# EAGLE library part NRF52832-QFAA-R (library NRF52832_QFAA)
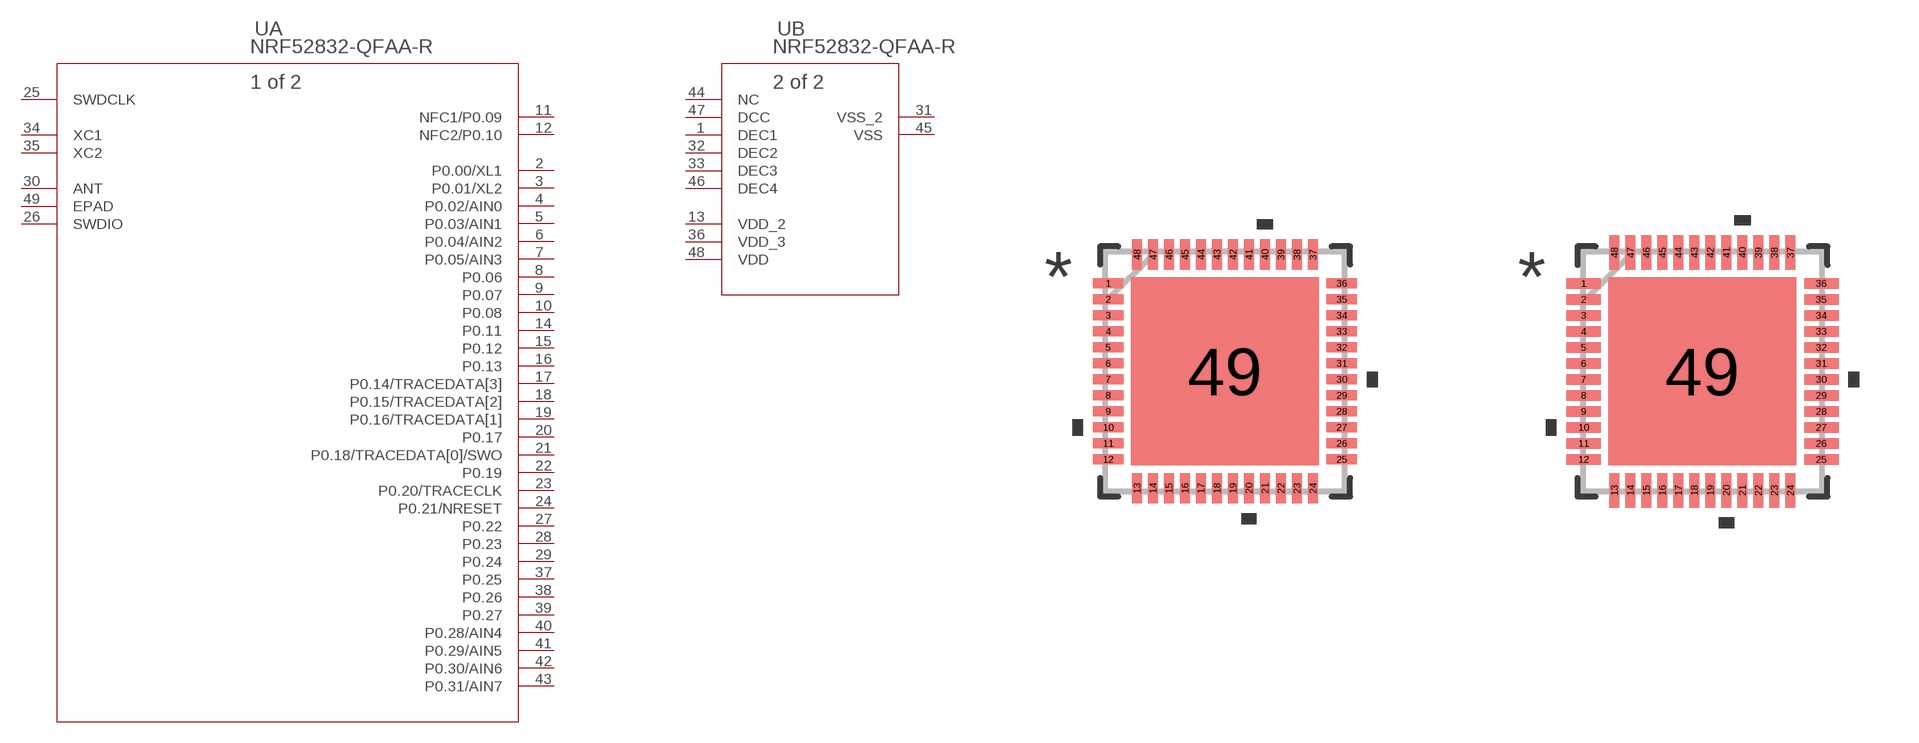
[diagram p0: symbol with the pads of QFN-48; footprints QFN-48, QFN-48-M]

Designator prefix U; gates A=NRF52832-QFAA-R B=NRF52832-QFAA-R_A

## NRF52832-QFAA-R (MANUFACTURER_PART_NUMBER: NRF52832QFAAR; VENDOR: Nordic Semiconductor)  [QFN-48]
1  B:DEC1  pwr
2  A:P0.00/XL1
3  A:P0.01/XL2
4  A:P0.02/AIN0
5  A:P0.03/AIN1
6  A:P0.04/AIN2
7  A:P0.05/AIN3
8  A:P0.06
9  A:P0.07
10  A:P0.08
11  A:NFC1/P0.09
12  A:NFC2/P0.10
13  B:VDD_2  pwr
14  A:P0.11
15  A:P0.12
16  A:P0.13
17  A:P0.14/TRACEDATA[3]
18  A:P0.15/TRACEDATA[2]
19  A:P0.16/TRACEDATA[1]
20  A:P0.17
21  A:P0.18/TRACEDATA[0]/SWO
22  A:P0.19
23  A:P0.20/TRACECLK
24  A:P0.21/NRESET
25  A:SWDCLK  in
26  A:SWDIO
27  A:P0.22
28  A:P0.23
29  A:P0.24
30  A:ANT  pas
31  B:VSS_2  pwr
32  B:DEC2  pwr
33  B:DEC3  pwr
34  A:XC1  in
35  A:XC2  in
36  B:VDD_3  pwr
37  A:P0.25
38  A:P0.26
39  A:P0.27
40  A:P0.28/AIN4
41  A:P0.29/AIN5
42  A:P0.30/AIN6
43  A:P0.31/AIN7
44  B:NC  nc
45  B:VSS  pwr
46  B:DEC4  pwr
47  B:DCC  pwr
48  B:VDD  pwr
49  A:EPAD  pas

## NRF52832-QFAA-RQFN-48-M (MANUFACTURER_PART_NUMBER: NRF52832QFAAR; VENDOR: Nordic Semiconductor)  [QFN-48-M]
Pads as for QFN-48

## NRF52832-QFAA-RQFN-48-L (MANUFACTURER_PART_NUMBER: NRF52832QFAAR; VENDOR: Nordic Semiconductor)  [QFN-48-L]
Pads as for QFN-48

## Footprint QFN-48 (pad centres in mm)
smd 0.762 x 0.254: 1 -2.921,2.2; 2 -2.921,1.8; 3 -2.921,1.4; 4 -2.921,1; 5 -2.921,0.6; 6 -2.921,0.2; 7 -2.921,-0.2; 8 -2.921,-0.6; 9 -2.921,-1; 10 -2.921,-1.4; 11 -2.921,-1.8; 12 -2.921,-2.2; 25 2.921,-2.2; 26 2.921,-1.8; 27 2.921,-1.4; 28 2.921,-1; 29 2.921,-0.6; 30 2.921,-0.2; 31 2.921,0.2; 32 2.921,0.6; 33 2.921,1; 34 2.921,1.4; 35 2.921,1.8; 36 2.921,2.2
smd 0.254 x 0.762: 13 -2.2,-2.921; 14 -1.8,-2.921; 15 -1.4,-2.921; 16 -1,-2.921; 17 -0.6,-2.921; 18 -0.2,-2.921; 19 0.2,-2.921; 20 0.6,-2.921; 21 1,-2.921; 22 1.4,-2.921; 23 1.8,-2.921; 24 2.2,-2.921; 37 2.2,2.921; 38 1.8,2.921; 39 1.4,2.921; 40 1,2.921; 41 0.6,2.921; 42 0.2,2.921; 43 -0.2,2.921; 44 -0.6,2.921; 45 -1,2.921; 46 -1.4,2.921; 47 -1.8,2.921; 48 -2.2,2.921
smd 4.699 x 4.699: 49 0,0

## Footprint QFN-48-M (pad centres in mm)
smd 0.864 x 0.254: 1 -2.972,2.2; 2 -2.972,1.8; 3 -2.972,1.4; 4 -2.972,1; 5 -2.972,0.6; 6 -2.972,0.2; 7 -2.972,-0.2; 8 -2.972,-0.6; 9 -2.972,-1; 10 -2.972,-1.4; 11 -2.972,-1.8; 12 -2.972,-2.2; 25 2.972,-2.2; 26 2.972,-1.8; 27 2.972,-1.4; 28 2.972,-1; 29 2.972,-0.6; 30 2.972,-0.2; 31 2.972,0.2; 32 2.972,0.6; 33 2.972,1; 34 2.972,1.4; 35 2.972,1.8; 36 2.972,2.2
smd 0.254 x 0.864: 13 -2.2,-2.972; 14 -1.8,-2.972; 15 -1.4,-2.972; 16 -1,-2.972; 17 -0.6,-2.972; 18 -0.2,-2.972; 19 0.2,-2.972; 20 0.6,-2.972; 21 1,-2.972; 22 1.4,-2.972; 23 1.8,-2.972; 24 2.2,-2.972; 37 2.2,2.972; 38 1.8,2.972; 39 1.4,2.972; 40 1,2.972; 41 0.6,2.972; 42 0.2,2.972; 43 -0.2,2.972; 44 -0.6,2.972; 45 -1,2.972; 46 -1.4,2.972; 47 -1.8,2.972; 48 -2.2,2.972
smd 4.699 x 4.699: 49 0,0

## Footprint QFN-48-L (pad centres in mm)
smd 0.66 x 0.254: 1 -2.87,2.2; 2 -2.87,1.8; 3 -2.87,1.4; 4 -2.87,1; 5 -2.87,0.6; 6 -2.87,0.2; 7 -2.87,-0.2; 8 -2.87,-0.6; 9 -2.87,-1; 10 -2.87,-1.4; 11 -2.87,-1.8; 12 -2.87,-2.2; 25 2.87,-2.2; 26 2.87,-1.8; 27 2.87,-1.4; 28 2.87,-1; 29 2.87,-0.6; 30 2.87,-0.2; 31 2.87,0.2; 32 2.87,0.6; 33 2.87,1; 34 2.87,1.4; 35 2.87,1.8; 36 2.87,2.2
smd 0.254 x 0.66: 13 -2.2,-2.87; 14 -1.8,-2.87; 15 -1.4,-2.87; 16 -1,-2.87; 17 -0.6,-2.87; 18 -0.2,-2.87; 19 0.2,-2.87; 20 0.6,-2.87; 21 1,-2.87; 22 1.4,-2.87; 23 1.8,-2.87; 24 2.2,-2.87; 37 2.2,2.87; 38 1.8,2.87; 39 1.4,2.87; 40 1,2.87; 41 0.6,2.87; 42 0.2,2.87; 43 -0.2,2.87; 44 -0.6,2.87; 45 -1,2.87; 46 -1.4,2.87; 47 -1.8,2.87; 48 -2.2,2.87
smd 4.699 x 4.699: 49 0,0